# Altium schematic symbol library Schlib2.SchLib: 2 symbols
Pins are listed as number, name and electrical type; pins without a type are passive.

## Component_1
designator ?

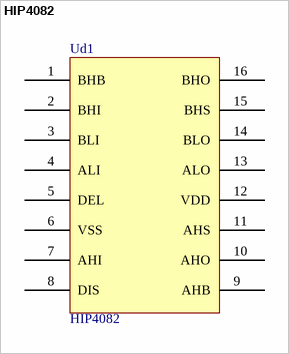
[diagram p0: symbol HIP4082]

## HIP4082
designator Ud1
footprint sop16
footprint SO-G16/G6.9 (Small Outline; 16 Leads; Body Width 7.5 mm; Pitch 1.27 mm)
pins: 1 BHB, 2 BHI, 3 BLI, 4 ALI, 5 DEL, 6 VSS, 7 AHI, 8 DIS, 9 AHB, 10 AHO, 11 AHS, 12 VDD, 13 ALO, 14 BLO, 15 BHS, 16 BHO